# Altium schematic symbol library JTAG.SchLib: 2 symbols
Pins are listed as number, name and electrical type; pins without a type are passive.

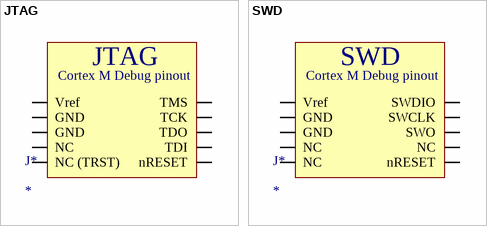
[diagram p0: symbols JTAG to SWD]

## JTAG
designator J*
footprint CortexM
footprint CORTEX_M_1.27
pins: 1 Vref, 2 TMS, 3 GND, 4 TCK, 5 GND, 6 TDO, 7 NC, 8 TDI, 9 NC (TRST), 10 nRESET
text: Cortex M Debug pinout

## SWD
designator J*
footprint CortexM
footprint CORTEX_M_1.27
pins: 1 Vref, 2 SWDIO, 3 GND, 4 SWCLK, 5 GND, 6 SWO, 7 NC, 8 NC, 9 NC, 10 nRESET
text: Cortex M Debug pinout